# Altium footprint library Connector_Samtec_HLE_SMD.PcbLib: 290 footprints (part 13 of 24)
Each footprint in its own frame and in the unit in brackets; x right, y up, seen from the top. Pads: shape width x height; smd on the part's side, far side on the other; paste and mask are expansions set on the pad; w line width, h text height; cw(c..) or ccw(c..) is an arc to the next point about the centre after c.
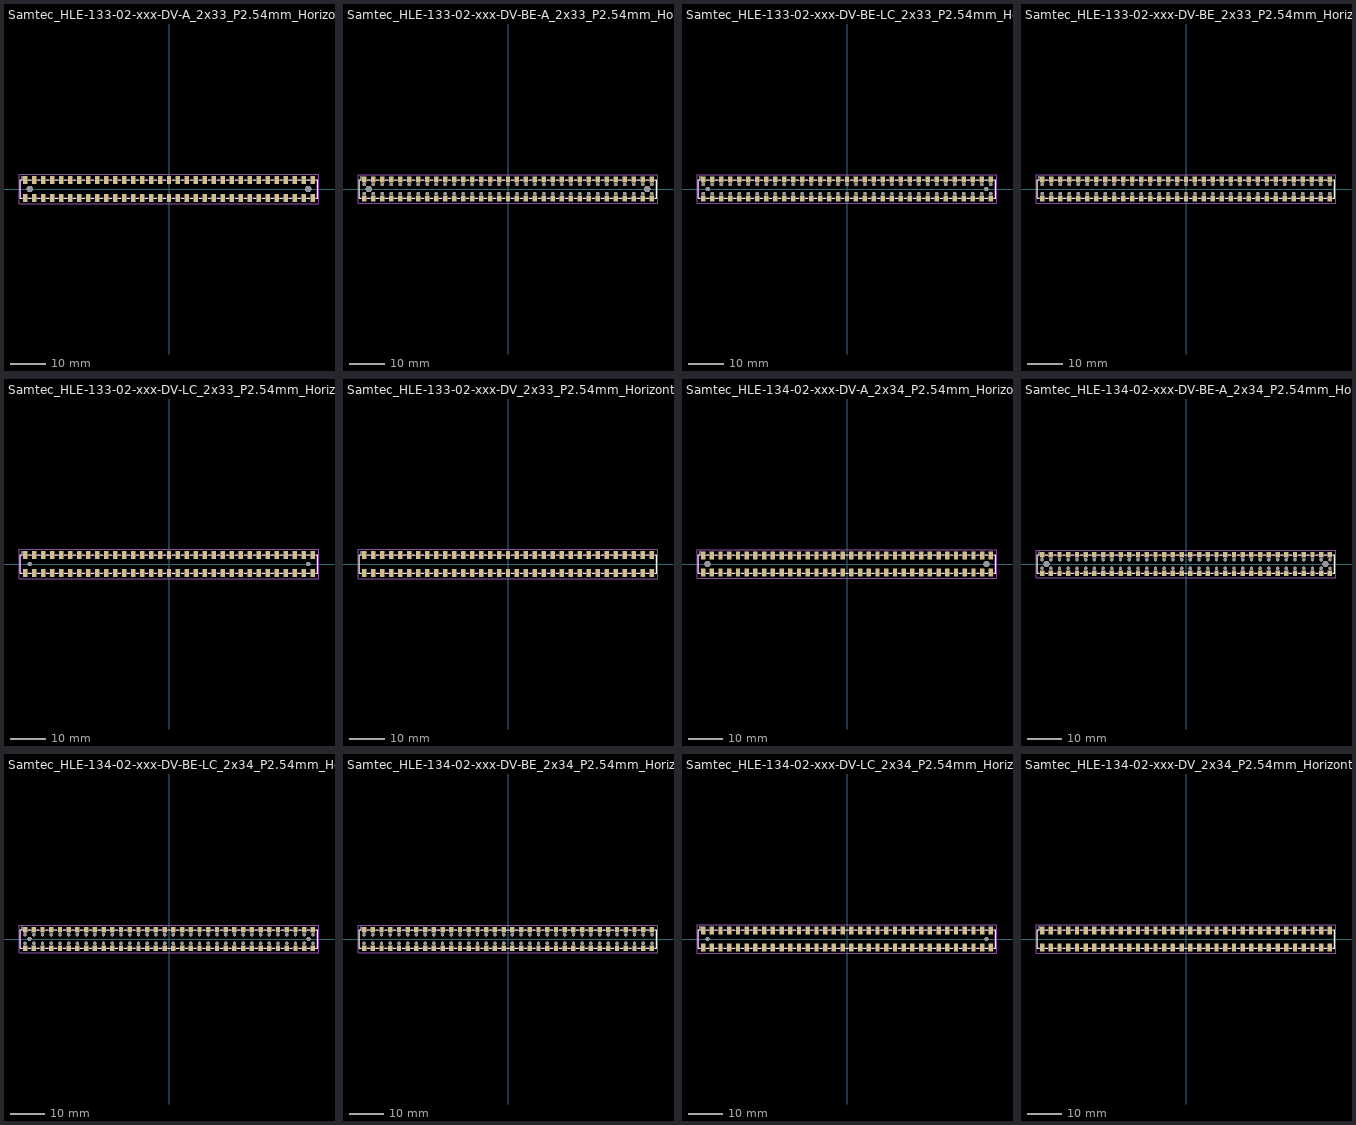
[diagram p12: the footprints below, top view; thin cyan lines are the x and y axes]

## Samtec_HLE-133-02-xxx-DV-A_2x33_P2.54mm_Horizontal [mm]
pads (68):
  rect 1.27x2.29 smd: 1(-40.64,2.525) 2(-40.64,-2.525) 3(-38.1,2.525) 4(-38.1,-2.525) 5(-35.56,2.525) 6(-35.56,-2.525) 7(-33.02,2.525) 8(-33.02,-2.525) 9(-30.48,2.525) 10(-30.48,-2.525) 11(-27.94,2.525) 12(-27.94,-2.525) 13(-25.4,2.525) 14(-25.4,-2.525) 15(-22.86,2.525) 16(-22.86,-2.525) 17(-20.32,2.525) 18(-20.32,-2.525) 19(-17.78,2.525) 20(-17.78,-2.525) 21(-15.24,2.525) 22(-15.24,-2.525) 23(-12.7,2.525) 24(-12.7,-2.525) 25(-10.16,2.525) 26(-10.16,-2.525) 27(-7.62,2.525) 28(-7.62,-2.525) 29(-5.08,2.525) 30(-5.08,-2.525) 31(-2.54,2.525) 32(-2.54,-2.525) 33(0,2.525) 34(0,-2.525) 35(2.54,2.525) 36(2.54,-2.525) 37(5.08,2.525) 38(5.08,-2.525) 39(7.62,2.525) 40(7.62,-2.525) 41(10.16,2.525) 42(10.16,-2.525) 43(12.7,2.525) 44(12.7,-2.525) 45(15.24,2.525) 46(15.24,-2.525) 47(17.78,2.525) 48(17.78,-2.525) 49(20.32,2.525) 50(20.32,-2.525) 51(22.86,2.525) 52(22.86,-2.525) 53(25.4,2.525) 54(25.4,-2.525) 55(27.94,2.525) 56(27.94,-2.525) 57(30.48,2.525) 58(30.48,-2.525) 59(33.02,2.525) 60(33.02,-2.525) 61(35.56,2.525) 62(35.56,-2.525) 63(38.1,2.525) 64(38.1,-2.525) 65(40.64,2.525) 66(40.64,-2.525)
  round 1.78 hole 1.78: Un1(-39.37,0) Un2(39.37,0)
F.SilkS:
  lines w0.254: -41.535,-2.65 -42.02,-2.65 -42.02,2.65 -41.535,2.65 -41.535,3.67 ; -39.745,-2.65 -38.995,-2.65 ; -39.745,2.65 -38.995,2.65 ; -37.205,-2.65 -36.455,-2.65 ; -37.205,2.65 -36.455,2.65 ; -34.665,-2.65 -33.915,-2.65 ; -34.665,2.65 -33.915,2.65 ; -32.125,-2.65 -31.375,-2.65 ; -32.125,2.65 -31.375,2.65 ; -29.585,-2.65 -28.835,-2.65 ; -29.585,2.65 -28.835,2.65 ; -27.045,-2.65 -26.295,-2.65 ; -27.045,2.65 -26.295,2.65 ; -24.505,-2.65 -23.755,-2.65 ; -24.505,2.65 -23.755,2.65 ; -21.965,-2.65 -21.215,-2.65 ; -21.965,2.65 -21.215,2.65 ; -19.425,-2.65 -18.675,-2.65 ; -19.425,2.65 -18.675,2.65 ; -16.885,-2.65 -16.135,-2.65 ; -16.885,2.65 -16.135,2.65 ; -14.345,-2.65 -13.595,-2.65 ; -14.345,2.65 -13.595,2.65 ; -11.805,-2.65 -11.055,-2.65 ; -11.805,2.65 -11.055,2.65 ; -9.265,-2.65 -8.515,-2.65 ; -9.265,2.65 -8.515,2.65 ; -6.725,-2.65 -5.975,-2.65 ; -6.725,2.65 -5.975,2.65 ; -4.185,-2.65 -3.435,-2.65 ; -4.185,2.65 -3.435,2.65 ; -1.645,-2.65 -0.895,-2.65 ; -1.645,2.65 -0.895,2.65 ; 0.895,-2.65 1.645,-2.65 ; 0.895,2.65 1.645,2.65 ; 3.435,-2.65 4.185,-2.65 ; 3.435,2.65 4.185,2.65 ; 5.975,-2.65 6.725,-2.65 ; 5.975,2.65 6.725,2.65 ; 8.515,-2.65 9.265,-2.65 ; 8.515,2.65 9.265,2.65 ; 11.055,-2.65 11.805,-2.65 ; 11.055,2.65 11.805,2.65 ; 13.595,-2.65 14.345,-2.65 ; 13.595,2.65 14.345,2.65 ; 16.135,-2.65 16.885,-2.65 ; 16.135,2.65 16.885,2.65 ; 18.675,-2.65 19.425,-2.65 ; 18.675,2.65 19.425,2.65 ; 21.215,-2.65 21.965,-2.65 ; 21.215,2.65 21.965,2.65 ; 23.755,-2.65 24.505,-2.65 ; 23.755,2.65 24.505,2.65 ; 26.295,-2.65 27.045,-2.65 ; 26.295,2.65 27.045,2.65 ; 28.835,-2.65 29.585,-2.65 ; 28.835,2.65 29.585,2.65 ; 31.375,-2.65 32.125,-2.65 ; 31.375,2.65 32.125,2.65 ; 33.915,-2.65 34.665,-2.65 ; 33.915,2.65 34.665,2.65 ; 36.455,-2.65 37.205,-2.65 ; 36.455,2.65 37.205,2.65 ; 38.995,-2.65 39.745,-2.65 ; 38.995,2.65 39.745,2.65 ; 41.535,-2.65 42.02,-2.65 42.02,2.65 41.535,2.65
Top Assembly:
  lines w0.254: -41.14,2.54 -40.64,1.833 -40.14,2.54 ; -41.91,-2.54 41.91,-2.54 41.91,2.54 -41.91,2.54 -41.91,-2.54
  text "'.Designator'" at -4.047,-2.68 h1
Top Courtyard:
  lines w0.254: -42.41,-4.17 42.41,-4.17 42.41,4.17 -42.41,4.17 -42.41,-4.17
Top Designator:
  text ".Designator" at -7.618,-0.508 h1.52

## Samtec_HLE-133-02-xxx-DV-BE-A_2x33_P2.54mm_Horizontal [mm]
pads (134):
  rect 1.27x1.68 smd: 1(-40.64,2.72) 2(-40.64,-2.72) 3(-38.1,2.72) 4(-38.1,-2.72) 5(-35.56,2.72) 6(-35.56,-2.72) 7(-33.02,2.72) 8(-33.02,-2.72) 9(-30.48,2.72) 10(-30.48,-2.72) 11(-27.94,2.72) 12(-27.94,-2.72) 13(-25.4,2.72) 14(-25.4,-2.72) 15(-22.86,2.72) 16(-22.86,-2.72) 17(-20.32,2.72) 18(-20.32,-2.72) 19(-17.78,2.72) 20(-17.78,-2.72) 21(-15.24,2.72) 22(-15.24,-2.72) 23(-12.7,2.72) 24(-12.7,-2.72) 25(-10.16,2.72) 26(-10.16,-2.72) 27(-7.62,2.72) 28(-7.62,-2.72) 29(-5.08,2.72) 30(-5.08,-2.72) 31(-2.54,2.72) 32(-2.54,-2.72) 33(0,2.72) 34(0,-2.72) 35(2.54,2.72) 36(2.54,-2.72) 37(5.08,2.72) 38(5.08,-2.72) 39(7.62,2.72) 40(7.62,-2.72) 41(10.16,2.72) 42(10.16,-2.72) 43(12.7,2.72) 44(12.7,-2.72) 45(15.24,2.72) 46(15.24,-2.72) 47(17.78,2.72) 48(17.78,-2.72) 49(20.32,2.72) 50(20.32,-2.72) 51(22.86,2.72) 52(22.86,-2.72) 53(25.4,2.72) 54(25.4,-2.72) 55(27.94,2.72) 56(27.94,-2.72) 57(30.48,2.72) 58(30.48,-2.72) 59(33.02,2.72) 60(33.02,-2.72) 61(35.56,2.72) 62(35.56,-2.72) 63(38.1,2.72) 64(38.1,-2.72) 65(40.64,2.72) 66(40.64,-2.72)
  round 0.97 hole 0.97: Un1(-40.64,1.27) Un2(-40.64,-1.27) Un4(-38.1,1.27) Un5(-38.1,-1.27) Un6(-35.56,1.27) Un7(-35.56,-1.27) Un8(-33.02,1.27) Un9(-33.02,-1.27) Un10(-30.48,1.27) Un11(-30.48,-1.27) Un12(-27.94,1.27) Un13(-27.94,-1.27) Un14(-25.4,1.27) Un15(-25.4,-1.27) Un16(-22.86,1.27) Un17(-22.86,-1.27) Un18(-20.32,1.27) Un19(-20.32,-1.27) Un20(-17.78,1.27) Un21(-17.78,-1.27) Un22(-15.24,1.27) Un23(-15.24,-1.27) Un24(-12.7,1.27) Un25(-12.7,-1.27) Un26(-10.16,1.27) Un27(-10.16,-1.27) Un28(-7.62,1.27) Un29(-7.62,-1.27) Un30(-5.08,1.27) Un31(-5.08,-1.27) Un32(-2.54,1.27) Un33(-2.54,-1.27) Un34(0,1.27) Un35(0,-1.27) Un36(2.54,1.27) Un37(2.54,-1.27) Un38(5.08,1.27) Un39(5.08,-1.27) Un40(7.62,1.27) Un41(7.62,-1.27) Un42(10.16,1.27) Un43(10.16,-1.27) Un44(12.7,1.27) Un45(12.7,-1.27) Un46(15.24,1.27) Un47(15.24,-1.27) Un48(17.78,1.27) Un49(17.78,-1.27) Un50(20.32,1.27) Un51(20.32,-1.27) Un52(22.86,1.27) Un53(22.86,-1.27) Un54(25.4,1.27) Un55(25.4,-1.27) Un56(27.94,1.27) Un57(27.94,-1.27) Un58(30.48,1.27) Un59(30.48,-1.27) Un60(33.02,1.27) Un61(33.02,-1.27) Un62(35.56,1.27) Un63(35.56,-1.27) Un64(38.1,1.27) Un65(38.1,-1.27) Un67(40.64,1.27) Un68(40.64,-1.27)
  round 1.78 hole 1.78: Un3(-39.37,0) Un66(39.37,0)
F.SilkS:
  lines w0.254: -41.535,-2.65 -42.02,-2.65 -42.02,2.65 -41.535,2.65 -41.535,3.56 ; -39.745,-2.65 -38.995,-2.65 ; -39.745,2.65 -38.995,2.65 ; -37.205,-2.65 -36.455,-2.65 ; -37.205,2.65 -36.455,2.65 ; -34.665,-2.65 -33.915,-2.65 ; -34.665,2.65 -33.915,2.65 ; -32.125,-2.65 -31.375,-2.65 ; -32.125,2.65 -31.375,2.65 ; -29.585,-2.65 -28.835,-2.65 ; -29.585,2.65 -28.835,2.65 ; -27.045,-2.65 -26.295,-2.65 ; -27.045,2.65 -26.295,2.65 ; -24.505,-2.65 -23.755,-2.65 ; -24.505,2.65 -23.755,2.65 ; -21.965,-2.65 -21.215,-2.65 ; -21.965,2.65 -21.215,2.65 ; -19.425,-2.65 -18.675,-2.65 ; -19.425,2.65 -18.675,2.65 ; -16.885,-2.65 -16.135,-2.65 ; -16.885,2.65 -16.135,2.65 ; -14.345,-2.65 -13.595,-2.65 ; -14.345,2.65 -13.595,2.65 ; -11.805,-2.65 -11.055,-2.65 ; -11.805,2.65 -11.055,2.65 ; -9.265,-2.65 -8.515,-2.65 ; -9.265,2.65 -8.515,2.65 ; -6.725,-2.65 -5.975,-2.65 ; -6.725,2.65 -5.975,2.65 ; -4.185,-2.65 -3.435,-2.65 ; -4.185,2.65 -3.435,2.65 ; -1.645,-2.65 -0.895,-2.65 ; -1.645,2.65 -0.895,2.65 ; 0.895,-2.65 1.645,-2.65 ; 0.895,2.65 1.645,2.65 ; 3.435,-2.65 4.185,-2.65 ; 3.435,2.65 4.185,2.65 ; 5.975,-2.65 6.725,-2.65 ; 5.975,2.65 6.725,2.65 ; 8.515,-2.65 9.265,-2.65 ; 8.515,2.65 9.265,2.65 ; 11.055,-2.65 11.805,-2.65 ; 11.055,2.65 11.805,2.65 ; 13.595,-2.65 14.345,-2.65 ; 13.595,2.65 14.345,2.65 ; 16.135,-2.65 16.885,-2.65 ; 16.135,2.65 16.885,2.65 ; 18.675,-2.65 19.425,-2.65 ; 18.675,2.65 19.425,2.65 ; 21.215,-2.65 21.965,-2.65 ; 21.215,2.65 21.965,2.65 ; 23.755,-2.65 24.505,-2.65 ; 23.755,2.65 24.505,2.65 ; 26.295,-2.65 27.045,-2.65 ; 26.295,2.65 27.045,2.65 ; 28.835,-2.65 29.585,-2.65 ; 28.835,2.65 29.585,2.65 ; 31.375,-2.65 32.125,-2.65 ; 31.375,2.65 32.125,2.65 ; 33.915,-2.65 34.665,-2.65 ; 33.915,2.65 34.665,2.65 ; 36.455,-2.65 37.205,-2.65 ; 36.455,2.65 37.205,2.65 ; 38.995,-2.65 39.745,-2.65 ; 38.995,2.65 39.745,2.65 ; 41.535,-2.65 42.02,-2.65 42.02,2.65 41.535,2.65
Top Assembly:
  lines w0.254: -41.14,2.54 -40.64,1.833 -40.14,2.54 ; -41.91,-2.54 41.91,-2.54 41.91,2.54 -41.91,2.54 -41.91,-2.54
  text "'.Designator'" at -4.047,-2.68 h1
Top Courtyard:
  lines w0.254: -42.41,-4.07 42.41,-4.07 42.41,4.07 -42.41,4.07 -42.41,-4.07
Top Designator:
  text ".Designator" at -7.618,-0.508 h1.52

## Samtec_HLE-133-02-xxx-DV-BE-LC_2x33_P2.54mm_Horizontal [mm]
pads (134):
  rect 1.27x1.68 smd: 1(-40.64,2.72) 2(-40.64,-2.72) 3(-38.1,2.72) 4(-38.1,-2.72) 5(-35.56,2.72) 6(-35.56,-2.72) 7(-33.02,2.72) 8(-33.02,-2.72) 9(-30.48,2.72) 10(-30.48,-2.72) 11(-27.94,2.72) 12(-27.94,-2.72) 13(-25.4,2.72) 14(-25.4,-2.72) 15(-22.86,2.72) 16(-22.86,-2.72) 17(-20.32,2.72) 18(-20.32,-2.72) 19(-17.78,2.72) 20(-17.78,-2.72) 21(-15.24,2.72) 22(-15.24,-2.72) 23(-12.7,2.72) 24(-12.7,-2.72) 25(-10.16,2.72) 26(-10.16,-2.72) 27(-7.62,2.72) 28(-7.62,-2.72) 29(-5.08,2.72) 30(-5.08,-2.72) 31(-2.54,2.72) 32(-2.54,-2.72) 33(0,2.72) 34(0,-2.72) 35(2.54,2.72) 36(2.54,-2.72) 37(5.08,2.72) 38(5.08,-2.72) 39(7.62,2.72) 40(7.62,-2.72) 41(10.16,2.72) 42(10.16,-2.72) 43(12.7,2.72) 44(12.7,-2.72) 45(15.24,2.72) 46(15.24,-2.72) 47(17.78,2.72) 48(17.78,-2.72) 49(20.32,2.72) 50(20.32,-2.72) 51(22.86,2.72) 52(22.86,-2.72) 53(25.4,2.72) 54(25.4,-2.72) 55(27.94,2.72) 56(27.94,-2.72) 57(30.48,2.72) 58(30.48,-2.72) 59(33.02,2.72) 60(33.02,-2.72) 61(35.56,2.72) 62(35.56,-2.72) 63(38.1,2.72) 64(38.1,-2.72) 65(40.64,2.72) 66(40.64,-2.72)
  round 0.97 hole 0.97: Un1(-40.64,1.27) Un2(-40.64,-1.27) Un4(-38.1,1.27) Un5(-38.1,-1.27) Un6(-35.56,1.27) Un7(-35.56,-1.27) Un8(-33.02,1.27) Un9(-33.02,-1.27) Un10(-30.48,1.27) Un11(-30.48,-1.27) Un12(-27.94,1.27) Un13(-27.94,-1.27) Un14(-25.4,1.27) Un15(-25.4,-1.27) Un16(-22.86,1.27) Un17(-22.86,-1.27) Un18(-20.32,1.27) Un19(-20.32,-1.27) Un20(-17.78,1.27) Un21(-17.78,-1.27) Un22(-15.24,1.27) Un23(-15.24,-1.27) Un24(-12.7,1.27) Un25(-12.7,-1.27) Un26(-10.16,1.27) Un27(-10.16,-1.27) Un28(-7.62,1.27) Un29(-7.62,-1.27) Un30(-5.08,1.27) Un31(-5.08,-1.27) Un32(-2.54,1.27) Un33(-2.54,-1.27) Un34(0,1.27) Un35(0,-1.27) Un36(2.54,1.27) Un37(2.54,-1.27) Un38(5.08,1.27) Un39(5.08,-1.27) Un40(7.62,1.27) Un41(7.62,-1.27) Un42(10.16,1.27) Un43(10.16,-1.27) Un44(12.7,1.27) Un45(12.7,-1.27) Un46(15.24,1.27) Un47(15.24,-1.27) Un48(17.78,1.27) Un49(17.78,-1.27) Un50(20.32,1.27) Un51(20.32,-1.27) Un52(22.86,1.27) Un53(22.86,-1.27) Un54(25.4,1.27) Un55(25.4,-1.27) Un56(27.94,1.27) Un57(27.94,-1.27) Un58(30.48,1.27) Un59(30.48,-1.27) Un60(33.02,1.27) Un61(33.02,-1.27) Un62(35.56,1.27) Un63(35.56,-1.27) Un64(38.1,1.27) Un65(38.1,-1.27) Un67(40.64,1.27) Un68(40.64,-1.27)
  round 1.19 hole 1.19: Un3(-39.37,0) Un66(39.37,0)
F.SilkS:
  lines w0.254: -41.535,-2.65 -42.02,-2.65 -42.02,2.65 -41.535,2.65 -41.535,3.56 ; -39.745,-2.65 -38.995,-2.65 ; -39.745,2.65 -38.995,2.65 ; -37.205,-2.65 -36.455,-2.65 ; -37.205,2.65 -36.455,2.65 ; -34.665,-2.65 -33.915,-2.65 ; -34.665,2.65 -33.915,2.65 ; -32.125,-2.65 -31.375,-2.65 ; -32.125,2.65 -31.375,2.65 ; -29.585,-2.65 -28.835,-2.65 ; -29.585,2.65 -28.835,2.65 ; -27.045,-2.65 -26.295,-2.65 ; -27.045,2.65 -26.295,2.65 ; -24.505,-2.65 -23.755,-2.65 ; -24.505,2.65 -23.755,2.65 ; -21.965,-2.65 -21.215,-2.65 ; -21.965,2.65 -21.215,2.65 ; -19.425,-2.65 -18.675,-2.65 ; -19.425,2.65 -18.675,2.65 ; -16.885,-2.65 -16.135,-2.65 ; -16.885,2.65 -16.135,2.65 ; -14.345,-2.65 -13.595,-2.65 ; -14.345,2.65 -13.595,2.65 ; -11.805,-2.65 -11.055,-2.65 ; -11.805,2.65 -11.055,2.65 ; -9.265,-2.65 -8.515,-2.65 ; -9.265,2.65 -8.515,2.65 ; -6.725,-2.65 -5.975,-2.65 ; -6.725,2.65 -5.975,2.65 ; -4.185,-2.65 -3.435,-2.65 ; -4.185,2.65 -3.435,2.65 ; -1.645,-2.65 -0.895,-2.65 ; -1.645,2.65 -0.895,2.65 ; 0.895,-2.65 1.645,-2.65 ; 0.895,2.65 1.645,2.65 ; 3.435,-2.65 4.185,-2.65 ; 3.435,2.65 4.185,2.65 ; 5.975,-2.65 6.725,-2.65 ; 5.975,2.65 6.725,2.65 ; 8.515,-2.65 9.265,-2.65 ; 8.515,2.65 9.265,2.65 ; 11.055,-2.65 11.805,-2.65 ; 11.055,2.65 11.805,2.65 ; 13.595,-2.65 14.345,-2.65 ; 13.595,2.65 14.345,2.65 ; 16.135,-2.65 16.885,-2.65 ; 16.135,2.65 16.885,2.65 ; 18.675,-2.65 19.425,-2.65 ; 18.675,2.65 19.425,2.65 ; 21.215,-2.65 21.965,-2.65 ; 21.215,2.65 21.965,2.65 ; 23.755,-2.65 24.505,-2.65 ; 23.755,2.65 24.505,2.65 ; 26.295,-2.65 27.045,-2.65 ; 26.295,2.65 27.045,2.65 ; 28.835,-2.65 29.585,-2.65 ; 28.835,2.65 29.585,2.65 ; 31.375,-2.65 32.125,-2.65 ; 31.375,2.65 32.125,2.65 ; 33.915,-2.65 34.665,-2.65 ; 33.915,2.65 34.665,2.65 ; 36.455,-2.65 37.205,-2.65 ; 36.455,2.65 37.205,2.65 ; 38.995,-2.65 39.745,-2.65 ; 38.995,2.65 39.745,2.65 ; 41.535,-2.65 42.02,-2.65 42.02,2.65 41.535,2.65
Top Assembly:
  lines w0.254: -41.14,2.54 -40.64,1.833 -40.14,2.54 ; -41.91,-2.54 41.91,-2.54 41.91,2.54 -41.91,2.54 -41.91,-2.54
  text "'.Designator'" at -4.047,-2.68 h1
Top Courtyard:
  lines w0.254: -42.41,-4.07 42.41,-4.07 42.41,4.07 -42.41,4.07 -42.41,-4.07
Top Designator:
  text ".Designator" at -7.618,-0.508 h1.52

## Samtec_HLE-133-02-xxx-DV-BE_2x33_P2.54mm_Horizontal [mm]
pads (132):
  rect 1.27x1.68 smd: 1(-40.64,2.72) 2(-40.64,-2.72) 3(-38.1,2.72) 4(-38.1,-2.72) 5(-35.56,2.72) 6(-35.56,-2.72) 7(-33.02,2.72) 8(-33.02,-2.72) 9(-30.48,2.72) 10(-30.48,-2.72) 11(-27.94,2.72) 12(-27.94,-2.72) 13(-25.4,2.72) 14(-25.4,-2.72) 15(-22.86,2.72) 16(-22.86,-2.72) 17(-20.32,2.72) 18(-20.32,-2.72) 19(-17.78,2.72) 20(-17.78,-2.72) 21(-15.24,2.72) 22(-15.24,-2.72) 23(-12.7,2.72) 24(-12.7,-2.72) 25(-10.16,2.72) 26(-10.16,-2.72) 27(-7.62,2.72) 28(-7.62,-2.72) 29(-5.08,2.72) 30(-5.08,-2.72) 31(-2.54,2.72) 32(-2.54,-2.72) 33(0,2.72) 34(0,-2.72) 35(2.54,2.72) 36(2.54,-2.72) 37(5.08,2.72) 38(5.08,-2.72) 39(7.62,2.72) 40(7.62,-2.72) 41(10.16,2.72) 42(10.16,-2.72) 43(12.7,2.72) 44(12.7,-2.72) 45(15.24,2.72) 46(15.24,-2.72) 47(17.78,2.72) 48(17.78,-2.72) 49(20.32,2.72) 50(20.32,-2.72) 51(22.86,2.72) 52(22.86,-2.72) 53(25.4,2.72) 54(25.4,-2.72) 55(27.94,2.72) 56(27.94,-2.72) 57(30.48,2.72) 58(30.48,-2.72) 59(33.02,2.72) 60(33.02,-2.72) 61(35.56,2.72) 62(35.56,-2.72) 63(38.1,2.72) 64(38.1,-2.72) 65(40.64,2.72) 66(40.64,-2.72)
  round 0.97 hole 0.97: Un1(-40.64,1.27) Un2(-40.64,-1.27) Un3(-38.1,1.27) Un4(-38.1,-1.27) Un5(-35.56,1.27) Un6(-35.56,-1.27) Un7(-33.02,1.27) Un8(-33.02,-1.27) Un9(-30.48,1.27) Un10(-30.48,-1.27) Un11(-27.94,1.27) Un12(-27.94,-1.27) Un13(-25.4,1.27) Un14(-25.4,-1.27) Un15(-22.86,1.27) Un16(-22.86,-1.27) Un17(-20.32,1.27) Un18(-20.32,-1.27) Un19(-17.78,1.27) Un20(-17.78,-1.27) Un21(-15.24,1.27) Un22(-15.24,-1.27) Un23(-12.7,1.27) Un24(-12.7,-1.27) Un25(-10.16,1.27) Un26(-10.16,-1.27) Un27(-7.62,1.27) Un28(-7.62,-1.27) Un29(-5.08,1.27) Un30(-5.08,-1.27) Un31(-2.54,1.27) Un32(-2.54,-1.27) Un33(0,1.27) Un34(0,-1.27) Un35(2.54,1.27) Un36(2.54,-1.27) Un37(5.08,1.27) Un38(5.08,-1.27) Un39(7.62,1.27) Un40(7.62,-1.27) Un41(10.16,1.27) Un42(10.16,-1.27) Un43(12.7,1.27) Un44(12.7,-1.27) Un45(15.24,1.27) Un46(15.24,-1.27) Un47(17.78,1.27) Un48(17.78,-1.27) Un49(20.32,1.27) Un50(20.32,-1.27) Un51(22.86,1.27) Un52(22.86,-1.27) Un53(25.4,1.27) Un54(25.4,-1.27) Un55(27.94,1.27) Un56(27.94,-1.27) Un57(30.48,1.27) Un58(30.48,-1.27) Un59(33.02,1.27) Un60(33.02,-1.27) Un61(35.56,1.27) Un62(35.56,-1.27) Un63(38.1,1.27) Un64(38.1,-1.27) Un65(40.64,1.27) Un66(40.64,-1.27)
F.SilkS:
  lines w0.254: -41.535,-2.65 -42.02,-2.65 -42.02,2.65 -41.535,2.65 -41.535,3.56 ; -39.745,-2.65 -38.995,-2.65 ; -39.745,2.65 -38.995,2.65 ; -37.205,-2.65 -36.455,-2.65 ; -37.205,2.65 -36.455,2.65 ; -34.665,-2.65 -33.915,-2.65 ; -34.665,2.65 -33.915,2.65 ; -32.125,-2.65 -31.375,-2.65 ; -32.125,2.65 -31.375,2.65 ; -29.585,-2.65 -28.835,-2.65 ; -29.585,2.65 -28.835,2.65 ; -27.045,-2.65 -26.295,-2.65 ; -27.045,2.65 -26.295,2.65 ; -24.505,-2.65 -23.755,-2.65 ; -24.505,2.65 -23.755,2.65 ; -21.965,-2.65 -21.215,-2.65 ; -21.965,2.65 -21.215,2.65 ; -19.425,-2.65 -18.675,-2.65 ; -19.425,2.65 -18.675,2.65 ; -16.885,-2.65 -16.135,-2.65 ; -16.885,2.65 -16.135,2.65 ; -14.345,-2.65 -13.595,-2.65 ; -14.345,2.65 -13.595,2.65 ; -11.805,-2.65 -11.055,-2.65 ; -11.805,2.65 -11.055,2.65 ; -9.265,-2.65 -8.515,-2.65 ; -9.265,2.65 -8.515,2.65 ; -6.725,-2.65 -5.975,-2.65 ; -6.725,2.65 -5.975,2.65 ; -4.185,-2.65 -3.435,-2.65 ; -4.185,2.65 -3.435,2.65 ; -1.645,-2.65 -0.895,-2.65 ; -1.645,2.65 -0.895,2.65 ; 0.895,-2.65 1.645,-2.65 ; 0.895,2.65 1.645,2.65 ; 3.435,-2.65 4.185,-2.65 ; 3.435,2.65 4.185,2.65 ; 5.975,-2.65 6.725,-2.65 ; 5.975,2.65 6.725,2.65 ; 8.515,-2.65 9.265,-2.65 ; 8.515,2.65 9.265,2.65 ; 11.055,-2.65 11.805,-2.65 ; 11.055,2.65 11.805,2.65 ; 13.595,-2.65 14.345,-2.65 ; 13.595,2.65 14.345,2.65 ; 16.135,-2.65 16.885,-2.65 ; 16.135,2.65 16.885,2.65 ; 18.675,-2.65 19.425,-2.65 ; 18.675,2.65 19.425,2.65 ; 21.215,-2.65 21.965,-2.65 ; 21.215,2.65 21.965,2.65 ; 23.755,-2.65 24.505,-2.65 ; 23.755,2.65 24.505,2.65 ; 26.295,-2.65 27.045,-2.65 ; 26.295,2.65 27.045,2.65 ; 28.835,-2.65 29.585,-2.65 ; 28.835,2.65 29.585,2.65 ; 31.375,-2.65 32.125,-2.65 ; 31.375,2.65 32.125,2.65 ; 33.915,-2.65 34.665,-2.65 ; 33.915,2.65 34.665,2.65 ; 36.455,-2.65 37.205,-2.65 ; 36.455,2.65 37.205,2.65 ; 38.995,-2.65 39.745,-2.65 ; 38.995,2.65 39.745,2.65 ; 41.535,-2.65 42.02,-2.65 42.02,2.65 41.535,2.65
Top Assembly:
  lines w0.254: -41.14,2.54 -40.64,1.833 -40.14,2.54 ; -41.91,-2.54 41.91,-2.54 41.91,2.54 -41.91,2.54 -41.91,-2.54
  text "'.Designator'" at -4.047,-2.68 h1
Top Courtyard:
  lines w0.254: -42.41,-4.07 42.41,-4.07 42.41,4.07 -42.41,4.07 -42.41,-4.07
Top Designator:
  text ".Designator" at -7.618,-0.508 h1.52

## Samtec_HLE-133-02-xxx-DV-LC_2x33_P2.54mm_Horizontal [mm]
pads (68):
  rect 1.27x2.29 smd: 1(-40.64,2.525) 2(-40.64,-2.525) 3(-38.1,2.525) 4(-38.1,-2.525) 5(-35.56,2.525) 6(-35.56,-2.525) 7(-33.02,2.525) 8(-33.02,-2.525) 9(-30.48,2.525) 10(-30.48,-2.525) 11(-27.94,2.525) 12(-27.94,-2.525) 13(-25.4,2.525) 14(-25.4,-2.525) 15(-22.86,2.525) 16(-22.86,-2.525) 17(-20.32,2.525) 18(-20.32,-2.525) 19(-17.78,2.525) 20(-17.78,-2.525) 21(-15.24,2.525) 22(-15.24,-2.525) 23(-12.7,2.525) 24(-12.7,-2.525) 25(-10.16,2.525) 26(-10.16,-2.525) 27(-7.62,2.525) 28(-7.62,-2.525) 29(-5.08,2.525) 30(-5.08,-2.525) 31(-2.54,2.525) 32(-2.54,-2.525) 33(0,2.525) 34(0,-2.525) 35(2.54,2.525) 36(2.54,-2.525) 37(5.08,2.525) 38(5.08,-2.525) 39(7.62,2.525) 40(7.62,-2.525) 41(10.16,2.525) 42(10.16,-2.525) 43(12.7,2.525) 44(12.7,-2.525) 45(15.24,2.525) 46(15.24,-2.525) 47(17.78,2.525) 48(17.78,-2.525) 49(20.32,2.525) 50(20.32,-2.525) 51(22.86,2.525) 52(22.86,-2.525) 53(25.4,2.525) 54(25.4,-2.525) 55(27.94,2.525) 56(27.94,-2.525) 57(30.48,2.525) 58(30.48,-2.525) 59(33.02,2.525) 60(33.02,-2.525) 61(35.56,2.525) 62(35.56,-2.525) 63(38.1,2.525) 64(38.1,-2.525) 65(40.64,2.525) 66(40.64,-2.525)
  round 1.19 hole 1.19: Un1(-39.37,0) Un2(39.37,0)
F.SilkS:
  lines w0.254: -41.535,-2.65 -42.02,-2.65 -42.02,2.65 -41.535,2.65 -41.535,3.67 ; -39.745,-2.65 -38.995,-2.65 ; -39.745,2.65 -38.995,2.65 ; -37.205,-2.65 -36.455,-2.65 ; -37.205,2.65 -36.455,2.65 ; -34.665,-2.65 -33.915,-2.65 ; -34.665,2.65 -33.915,2.65 ; -32.125,-2.65 -31.375,-2.65 ; -32.125,2.65 -31.375,2.65 ; -29.585,-2.65 -28.835,-2.65 ; -29.585,2.65 -28.835,2.65 ; -27.045,-2.65 -26.295,-2.65 ; -27.045,2.65 -26.295,2.65 ; -24.505,-2.65 -23.755,-2.65 ; -24.505,2.65 -23.755,2.65 ; -21.965,-2.65 -21.215,-2.65 ; -21.965,2.65 -21.215,2.65 ; -19.425,-2.65 -18.675,-2.65 ; -19.425,2.65 -18.675,2.65 ; -16.885,-2.65 -16.135,-2.65 ; -16.885,2.65 -16.135,2.65 ; -14.345,-2.65 -13.595,-2.65 ; -14.345,2.65 -13.595,2.65 ; -11.805,-2.65 -11.055,-2.65 ; -11.805,2.65 -11.055,2.65 ; -9.265,-2.65 -8.515,-2.65 ; -9.265,2.65 -8.515,2.65 ; -6.725,-2.65 -5.975,-2.65 ; -6.725,2.65 -5.975,2.65 ; -4.185,-2.65 -3.435,-2.65 ; -4.185,2.65 -3.435,2.65 ; -1.645,-2.65 -0.895,-2.65 ; -1.645,2.65 -0.895,2.65 ; 0.895,-2.65 1.645,-2.65 ; 0.895,2.65 1.645,2.65 ; 3.435,-2.65 4.185,-2.65 ; 3.435,2.65 4.185,2.65 ; 5.975,-2.65 6.725,-2.65 ; 5.975,2.65 6.725,2.65 ; 8.515,-2.65 9.265,-2.65 ; 8.515,2.65 9.265,2.65 ; 11.055,-2.65 11.805,-2.65 ; 11.055,2.65 11.805,2.65 ; 13.595,-2.65 14.345,-2.65 ; 13.595,2.65 14.345,2.65 ; 16.135,-2.65 16.885,-2.65 ; 16.135,2.65 16.885,2.65 ; 18.675,-2.65 19.425,-2.65 ; 18.675,2.65 19.425,2.65 ; 21.215,-2.65 21.965,-2.65 ; 21.215,2.65 21.965,2.65 ; 23.755,-2.65 24.505,-2.65 ; 23.755,2.65 24.505,2.65 ; 26.295,-2.65 27.045,-2.65 ; 26.295,2.65 27.045,2.65 ; 28.835,-2.65 29.585,-2.65 ; 28.835,2.65 29.585,2.65 ; 31.375,-2.65 32.125,-2.65 ; 31.375,2.65 32.125,2.65 ; 33.915,-2.65 34.665,-2.65 ; 33.915,2.65 34.665,2.65 ; 36.455,-2.65 37.205,-2.65 ; 36.455,2.65 37.205,2.65 ; 38.995,-2.65 39.745,-2.65 ; 38.995,2.65 39.745,2.65 ; 41.535,-2.65 42.02,-2.65 42.02,2.65 41.535,2.65
Top Assembly:
  lines w0.254: -41.14,2.54 -40.64,1.833 -40.14,2.54 ; -41.91,-2.54 41.91,-2.54 41.91,2.54 -41.91,2.54 -41.91,-2.54
  text "'.Designator'" at -4.047,-2.68 h1
Top Courtyard:
  lines w0.254: -42.41,-4.17 42.41,-4.17 42.41,4.17 -42.41,4.17 -42.41,-4.17
Top Designator:
  text ".Designator" at -7.618,-0.508 h1.52

## Samtec_HLE-133-02-xxx-DV_2x33_P2.54mm_Horizontal [mm]
pads (66):
  rect 1.27x2.29 smd: 1(-40.64,2.525) 2(-40.64,-2.525) 3(-38.1,2.525) 4(-38.1,-2.525) 5(-35.56,2.525) 6(-35.56,-2.525) 7(-33.02,2.525) 8(-33.02,-2.525) 9(-30.48,2.525) 10(-30.48,-2.525) 11(-27.94,2.525) 12(-27.94,-2.525) 13(-25.4,2.525) 14(-25.4,-2.525) 15(-22.86,2.525) 16(-22.86,-2.525) 17(-20.32,2.525) 18(-20.32,-2.525) 19(-17.78,2.525) 20(-17.78,-2.525) 21(-15.24,2.525) 22(-15.24,-2.525) 23(-12.7,2.525) 24(-12.7,-2.525) 25(-10.16,2.525) 26(-10.16,-2.525) 27(-7.62,2.525) 28(-7.62,-2.525) 29(-5.08,2.525) 30(-5.08,-2.525) 31(-2.54,2.525) 32(-2.54,-2.525) 33(0,2.525) 34(0,-2.525) 35(2.54,2.525) 36(2.54,-2.525) 37(5.08,2.525) 38(5.08,-2.525) 39(7.62,2.525) 40(7.62,-2.525) 41(10.16,2.525) 42(10.16,-2.525) 43(12.7,2.525) 44(12.7,-2.525) 45(15.24,2.525) 46(15.24,-2.525) 47(17.78,2.525) 48(17.78,-2.525) 49(20.32,2.525) 50(20.32,-2.525) 51(22.86,2.525) 52(22.86,-2.525) 53(25.4,2.525) 54(25.4,-2.525) 55(27.94,2.525) 56(27.94,-2.525) 57(30.48,2.525) 58(30.48,-2.525) 59(33.02,2.525) 60(33.02,-2.525) 61(35.56,2.525) 62(35.56,-2.525) 63(38.1,2.525) 64(38.1,-2.525) 65(40.64,2.525) 66(40.64,-2.525)
F.SilkS:
  lines w0.254: -41.535,-2.65 -42.02,-2.65 -42.02,2.65 -41.535,2.65 -41.535,3.67 ; -39.745,-2.65 -38.995,-2.65 ; -39.745,2.65 -38.995,2.65 ; -37.205,-2.65 -36.455,-2.65 ; -37.205,2.65 -36.455,2.65 ; -34.665,-2.65 -33.915,-2.65 ; -34.665,2.65 -33.915,2.65 ; -32.125,-2.65 -31.375,-2.65 ; -32.125,2.65 -31.375,2.65 ; -29.585,-2.65 -28.835,-2.65 ; -29.585,2.65 -28.835,2.65 ; -27.045,-2.65 -26.295,-2.65 ; -27.045,2.65 -26.295,2.65 ; -24.505,-2.65 -23.755,-2.65 ; -24.505,2.65 -23.755,2.65 ; -21.965,-2.65 -21.215,-2.65 ; -21.965,2.65 -21.215,2.65 ; -19.425,-2.65 -18.675,-2.65 ; -19.425,2.65 -18.675,2.65 ; -16.885,-2.65 -16.135,-2.65 ; -16.885,2.65 -16.135,2.65 ; -14.345,-2.65 -13.595,-2.65 ; -14.345,2.65 -13.595,2.65 ; -11.805,-2.65 -11.055,-2.65 ; -11.805,2.65 -11.055,2.65 ; -9.265,-2.65 -8.515,-2.65 ; -9.265,2.65 -8.515,2.65 ; -6.725,-2.65 -5.975,-2.65 ; -6.725,2.65 -5.975,2.65 ; -4.185,-2.65 -3.435,-2.65 ; -4.185,2.65 -3.435,2.65 ; -1.645,-2.65 -0.895,-2.65 ; -1.645,2.65 -0.895,2.65 ; 0.895,-2.65 1.645,-2.65 ; 0.895,2.65 1.645,2.65 ; 3.435,-2.65 4.185,-2.65 ; 3.435,2.65 4.185,2.65 ; 5.975,-2.65 6.725,-2.65 ; 5.975,2.65 6.725,2.65 ; 8.515,-2.65 9.265,-2.65 ; 8.515,2.65 9.265,2.65 ; 11.055,-2.65 11.805,-2.65 ; 11.055,2.65 11.805,2.65 ; 13.595,-2.65 14.345,-2.65 ; 13.595,2.65 14.345,2.65 ; 16.135,-2.65 16.885,-2.65 ; 16.135,2.65 16.885,2.65 ; 18.675,-2.65 19.425,-2.65 ; 18.675,2.65 19.425,2.65 ; 21.215,-2.65 21.965,-2.65 ; 21.215,2.65 21.965,2.65 ; 23.755,-2.65 24.505,-2.65 ; 23.755,2.65 24.505,2.65 ; 26.295,-2.65 27.045,-2.65 ; 26.295,2.65 27.045,2.65 ; 28.835,-2.65 29.585,-2.65 ; 28.835,2.65 29.585,2.65 ; 31.375,-2.65 32.125,-2.65 ; 31.375,2.65 32.125,2.65 ; 33.915,-2.65 34.665,-2.65 ; 33.915,2.65 34.665,2.65 ; 36.455,-2.65 37.205,-2.65 ; 36.455,2.65 37.205,2.65 ; 38.995,-2.65 39.745,-2.65 ; 38.995,2.65 39.745,2.65 ; 41.535,-2.65 42.02,-2.65 42.02,2.65 41.535,2.65
Top Assembly:
  lines w0.254: -41.14,2.54 -40.64,1.833 -40.14,2.54 ; -41.91,-2.54 41.91,-2.54 41.91,2.54 -41.91,2.54 -41.91,-2.54
  text "'.Designator'" at -4.047,-2.68 h1
Top Courtyard:
  lines w0.254: -42.41,-4.17 42.41,-4.17 42.41,4.17 -42.41,4.17 -42.41,-4.17
Top Designator:
  text ".Designator" at -7.618,-0.508 h1.52

## Samtec_HLE-134-02-xxx-DV-A_2x34_P2.54mm_Horizontal [mm]
pads (70):
  rect 1.27x2.29 smd: 1(-41.91,2.525) 2(-41.91,-2.525) 3(-39.37,2.525) 4(-39.37,-2.525) 5(-36.83,2.525) 6(-36.83,-2.525) 7(-34.29,2.525) 8(-34.29,-2.525) 9(-31.75,2.525) 10(-31.75,-2.525) 11(-29.21,2.525) 12(-29.21,-2.525) 13(-26.67,2.525) 14(-26.67,-2.525) 15(-24.13,2.525) 16(-24.13,-2.525) 17(-21.59,2.525) 18(-21.59,-2.525) 19(-19.05,2.525) 20(-19.05,-2.525) 21(-16.51,2.525) 22(-16.51,-2.525) 23(-13.97,2.525) 24(-13.97,-2.525) 25(-11.43,2.525) 26(-11.43,-2.525) 27(-8.89,2.525) 28(-8.89,-2.525) 29(-6.35,2.525) 30(-6.35,-2.525) 31(-3.81,2.525) 32(-3.81,-2.525) 33(-1.27,2.525) 34(-1.27,-2.525) 35(1.27,2.525) 36(1.27,-2.525) 37(3.81,2.525) 38(3.81,-2.525) 39(6.35,2.525) 40(6.35,-2.525) 41(8.89,2.525) 42(8.89,-2.525) 43(11.43,2.525) 44(11.43,-2.525) 45(13.97,2.525) 46(13.97,-2.525) 47(16.51,2.525) 48(16.51,-2.525) 49(19.05,2.525) 50(19.05,-2.525) 51(21.59,2.525) 52(21.59,-2.525) 53(24.13,2.525) 54(24.13,-2.525) 55(26.67,2.525) 56(26.67,-2.525) 57(29.21,2.525) 58(29.21,-2.525) 59(31.75,2.525) 60(31.75,-2.525) 61(34.29,2.525) 62(34.29,-2.525) 63(36.83,2.525) 64(36.83,-2.525) 65(39.37,2.525) 66(39.37,-2.525) 67(41.91,2.525) 68(41.91,-2.525)
  round 1.78 hole 1.78: Un1(-40.64,0) Un2(40.64,0)
F.SilkS:
  lines w0.254: -42.805,-2.65 -43.29,-2.65 -43.29,2.65 -42.805,2.65 -42.805,3.67 ; -41.015,-2.65 -40.265,-2.65 ; -41.015,2.65 -40.265,2.65 ; -38.475,-2.65 -37.725,-2.65 ; -38.475,2.65 -37.725,2.65 ; -35.935,-2.65 -35.185,-2.65 ; -35.935,2.65 -35.185,2.65 ; -33.395,-2.65 -32.645,-2.65 ; -33.395,2.65 -32.645,2.65 ; -30.855,-2.65 -30.105,-2.65 ; -30.855,2.65 -30.105,2.65 ; -28.315,-2.65 -27.565,-2.65 ; -28.315,2.65 -27.565,2.65 ; -25.775,-2.65 -25.025,-2.65 ; -25.775,2.65 -25.025,2.65 ; -23.235,-2.65 -22.485,-2.65 ; -23.235,2.65 -22.485,2.65 ; -20.695,-2.65 -19.945,-2.65 ; -20.695,2.65 -19.945,2.65 ; -18.155,-2.65 -17.405,-2.65 ; -18.155,2.65 -17.405,2.65 ; -15.615,-2.65 -14.865,-2.65 ; -15.615,2.65 -14.865,2.65 ; -13.075,-2.65 -12.325,-2.65 ; -13.075,2.65 -12.325,2.65 ; -10.535,-2.65 -9.785,-2.65 ; -10.535,2.65 -9.785,2.65 ; -7.995,-2.65 -7.245,-2.65 ; -7.995,2.65 -7.245,2.65 ; -5.455,-2.65 -4.705,-2.65 ; -5.455,2.65 -4.705,2.65 ; -2.915,-2.65 -2.165,-2.65 ; -2.915,2.65 -2.165,2.65 ; -0.375,-2.65 0.375,-2.65 ; -0.375,2.65 0.375,2.65 ; 2.165,-2.65 2.915,-2.65 ; 2.165,2.65 2.915,2.65 ; 4.705,-2.65 5.455,-2.65 ; 4.705,2.65 5.455,2.65 ; 7.245,-2.65 7.995,-2.65 ; 7.245,2.65 7.995,2.65 ; 9.785,-2.65 10.535,-2.65 ; 9.785,2.65 10.535,2.65 ; 12.325,-2.65 13.075,-2.65 ; 12.325,2.65 13.075,2.65 ; 14.865,-2.65 15.615,-2.65 ; 14.865,2.65 15.615,2.65 ; 17.405,-2.65 18.155,-2.65 ; 17.405,2.65 18.155,2.65 ; 19.945,-2.65 20.695,-2.65 ; 19.945,2.65 20.695,2.65 ; 22.485,-2.65 23.235,-2.65 ; 22.485,2.65 23.235,2.65 ; 25.025,-2.65 25.775,-2.65 ; 25.025,2.65 25.775,2.65 ; 27.565,-2.65 28.315,-2.65 ; 27.565,2.65 28.315,2.65 ; 30.105,-2.65 30.855,-2.65 ; 30.105,2.65 30.855,2.65 ; 32.645,-2.65 33.395,-2.65 ; 32.645,2.65 33.395,2.65 ; 35.185,-2.65 35.935,-2.65 ; 35.185,2.65 35.935,2.65 ; 37.725,-2.65 38.475,-2.65 ; 37.725,2.65 38.475,2.65 ; 40.265,-2.65 41.015,-2.65 ; 40.265,2.65 41.015,2.65 ; 42.805,-2.65 43.29,-2.65 43.29,2.65 42.805,2.65
Top Assembly:
  lines w0.254: -42.41,2.54 -41.91,1.833 -41.41,2.54 ; -43.18,-2.54 43.18,-2.54 43.18,2.54 -43.18,2.54 -43.18,-2.54
  text "'.Designator'" at -4.047,-2.68 h1
Top Courtyard:
  lines w0.254: -43.68,-4.17 43.68,-4.17 43.68,4.17 -43.68,4.17 -43.68,-4.17
Top Designator:
  text ".Designator" at -7.618,-0.508 h1.52

## Samtec_HLE-134-02-xxx-DV-BE-A_2x34_P2.54mm_Horizontal [mm]
pads (138):
  rect 1.27x1.68 smd: 1(-41.91,2.72) 2(-41.91,-2.72) 3(-39.37,2.72) 4(-39.37,-2.72) 5(-36.83,2.72) 6(-36.83,-2.72) 7(-34.29,2.72) 8(-34.29,-2.72) 9(-31.75,2.72) 10(-31.75,-2.72) 11(-29.21,2.72) 12(-29.21,-2.72) 13(-26.67,2.72) 14(-26.67,-2.72) 15(-24.13,2.72) 16(-24.13,-2.72) 17(-21.59,2.72) 18(-21.59,-2.72) 19(-19.05,2.72) 20(-19.05,-2.72) 21(-16.51,2.72) 22(-16.51,-2.72) 23(-13.97,2.72) 24(-13.97,-2.72) 25(-11.43,2.72) 26(-11.43,-2.72) 27(-8.89,2.72) 28(-8.89,-2.72) 29(-6.35,2.72) 30(-6.35,-2.72) 31(-3.81,2.72) 32(-3.81,-2.72) 33(-1.27,2.72) 34(-1.27,-2.72) 35(1.27,2.72) 36(1.27,-2.72) 37(3.81,2.72) 38(3.81,-2.72) 39(6.35,2.72) 40(6.35,-2.72) 41(8.89,2.72) 42(8.89,-2.72) 43(11.43,2.72) 44(11.43,-2.72) 45(13.97,2.72) 46(13.97,-2.72) 47(16.51,2.72) 48(16.51,-2.72) 49(19.05,2.72) 50(19.05,-2.72) 51(21.59,2.72) 52(21.59,-2.72) 53(24.13,2.72) 54(24.13,-2.72) 55(26.67,2.72) 56(26.67,-2.72) 57(29.21,2.72) 58(29.21,-2.72) 59(31.75,2.72) 60(31.75,-2.72) 61(34.29,2.72) 62(34.29,-2.72) 63(36.83,2.72) 64(36.83,-2.72) 65(39.37,2.72) 66(39.37,-2.72) 67(41.91,2.72) 68(41.91,-2.72)
  round 0.97 hole 0.97: Un1(-41.91,1.27) Un2(-41.91,-1.27) Un4(-39.37,1.27) Un5(-39.37,-1.27) Un6(-36.83,1.27) Un7(-36.83,-1.27) Un8(-34.29,1.27) Un9(-34.29,-1.27) Un10(-31.75,1.27) Un11(-31.75,-1.27) Un12(-29.21,1.27) Un13(-29.21,-1.27) Un14(-26.67,1.27) Un15(-26.67,-1.27) Un16(-24.13,1.27) Un17(-24.13,-1.27) Un18(-21.59,1.27) Un19(-21.59,-1.27) Un20(-19.05,1.27) Un21(-19.05,-1.27) Un22(-16.51,1.27) Un23(-16.51,-1.27) Un24(-13.97,1.27) Un25(-13.97,-1.27) Un26(-11.43,1.27) Un27(-11.43,-1.27) Un28(-8.89,1.27) Un29(-8.89,-1.27) Un30(-6.35,1.27) Un31(-6.35,-1.27) Un32(-3.81,1.27) Un33(-3.81,-1.27) Un34(-1.27,1.27) Un35(-1.27,-1.27) Un36(1.27,1.27) Un37(1.27,-1.27) Un38(3.81,1.27) Un39(3.81,-1.27) Un40(6.35,1.27) Un41(6.35,-1.27) Un42(8.89,1.27) Un43(8.89,-1.27) Un44(11.43,1.27) Un45(11.43,-1.27) Un46(13.97,1.27) Un47(13.97,-1.27) Un48(16.51,1.27) Un49(16.51,-1.27) Un50(19.05,1.27) Un51(19.05,-1.27) Un52(21.59,1.27) Un53(21.59,-1.27) Un54(24.13,1.27) Un55(24.13,-1.27) Un56(26.67,1.27) Un57(26.67,-1.27) Un58(29.21,1.27) Un59(29.21,-1.27) Un60(31.75,1.27) Un61(31.75,-1.27) Un62(34.29,1.27) Un63(34.29,-1.27) Un64(36.83,1.27) Un65(36.83,-1.27) Un66(39.37,1.27) Un67(39.37,-1.27) Un69(41.91,1.27) Un70(41.91,-1.27)
  round 1.78 hole 1.78: Un3(-40.64,0) Un68(40.64,0)
F.SilkS:
  lines w0.254: -42.805,-2.65 -43.29,-2.65 -43.29,2.65 -42.805,2.65 -42.805,3.56 ; -41.015,-2.65 -40.265,-2.65 ; -41.015,2.65 -40.265,2.65 ; -38.475,-2.65 -37.725,-2.65 ; -38.475,2.65 -37.725,2.65 ; -35.935,-2.65 -35.185,-2.65 ; -35.935,2.65 -35.185,2.65 ; -33.395,-2.65 -32.645,-2.65 ; -33.395,2.65 -32.645,2.65 ; -30.855,-2.65 -30.105,-2.65 ; -30.855,2.65 -30.105,2.65 ; -28.315,-2.65 -27.565,-2.65 ; -28.315,2.65 -27.565,2.65 ; -25.775,-2.65 -25.025,-2.65 ; -25.775,2.65 -25.025,2.65 ; -23.235,-2.65 -22.485,-2.65 ; -23.235,2.65 -22.485,2.65 ; -20.695,-2.65 -19.945,-2.65 ; -20.695,2.65 -19.945,2.65 ; -18.155,-2.65 -17.405,-2.65 ; -18.155,2.65 -17.405,2.65 ; -15.615,-2.65 -14.865,-2.65 ; -15.615,2.65 -14.865,2.65 ; -13.075,-2.65 -12.325,-2.65 ; -13.075,2.65 -12.325,2.65 ; -10.535,-2.65 -9.785,-2.65 ; -10.535,2.65 -9.785,2.65 ; -7.995,-2.65 -7.245,-2.65 ; -7.995,2.65 -7.245,2.65 ; -5.455,-2.65 -4.705,-2.65 ; -5.455,2.65 -4.705,2.65 ; -2.915,-2.65 -2.165,-2.65 ; -2.915,2.65 -2.165,2.65 ; -0.375,-2.65 0.375,-2.65 ; -0.375,2.65 0.375,2.65 ; 2.165,-2.65 2.915,-2.65 ; 2.165,2.65 2.915,2.65 ; 4.705,-2.65 5.455,-2.65 ; 4.705,2.65 5.455,2.65 ; 7.245,-2.65 7.995,-2.65 ; 7.245,2.65 7.995,2.65 ; 9.785,-2.65 10.535,-2.65 ; 9.785,2.65 10.535,2.65 ; 12.325,-2.65 13.075,-2.65 ; 12.325,2.65 13.075,2.65 ; 14.865,-2.65 15.615,-2.65 ; 14.865,2.65 15.615,2.65 ; 17.405,-2.65 18.155,-2.65 ; 17.405,2.65 18.155,2.65 ; 19.945,-2.65 20.695,-2.65 ; 19.945,2.65 20.695,2.65 ; 22.485,-2.65 23.235,-2.65 ; 22.485,2.65 23.235,2.65 ; 25.025,-2.65 25.775,-2.65 ; 25.025,2.65 25.775,2.65 ; 27.565,-2.65 28.315,-2.65 ; 27.565,2.65 28.315,2.65 ; 30.105,-2.65 30.855,-2.65 ; 30.105,2.65 30.855,2.65 ; 32.645,-2.65 33.395,-2.65 ; 32.645,2.65 33.395,2.65 ; 35.185,-2.65 35.935,-2.65 ; 35.185,2.65 35.935,2.65 ; 37.725,-2.65 38.475,-2.65 ; 37.725,2.65 38.475,2.65 ; 40.265,-2.65 41.015,-2.65 ; 40.265,2.65 41.015,2.65 ; 42.805,-2.65 43.29,-2.65 43.29,2.65 42.805,2.65
Top Assembly:
  lines w0.254: -42.41,2.54 -41.91,1.833 -41.41,2.54 ; -43.18,-2.54 43.18,-2.54 43.18,2.54 -43.18,2.54 -43.18,-2.54
  text "'.Designator'" at -4.047,-2.68 h1
Top Courtyard:
  lines w0.254: -43.68,-4.07 43.68,-4.07 43.68,4.07 -43.68,4.07 -43.68,-4.07
Top Designator:
  text ".Designator" at -7.618,-0.508 h1.52

## Samtec_HLE-134-02-xxx-DV-BE-LC_2x34_P2.54mm_Horizontal [mm]
pads (138):
  rect 1.27x1.68 smd: 1(-41.91,2.72) 2(-41.91,-2.72) 3(-39.37,2.72) 4(-39.37,-2.72) 5(-36.83,2.72) 6(-36.83,-2.72) 7(-34.29,2.72) 8(-34.29,-2.72) 9(-31.75,2.72) 10(-31.75,-2.72) 11(-29.21,2.72) 12(-29.21,-2.72) 13(-26.67,2.72) 14(-26.67,-2.72) 15(-24.13,2.72) 16(-24.13,-2.72) 17(-21.59,2.72) 18(-21.59,-2.72) 19(-19.05,2.72) 20(-19.05,-2.72) 21(-16.51,2.72) 22(-16.51,-2.72) 23(-13.97,2.72) 24(-13.97,-2.72) 25(-11.43,2.72) 26(-11.43,-2.72) 27(-8.89,2.72) 28(-8.89,-2.72) 29(-6.35,2.72) 30(-6.35,-2.72) 31(-3.81,2.72) 32(-3.81,-2.72) 33(-1.27,2.72) 34(-1.27,-2.72) 35(1.27,2.72) 36(1.27,-2.72) 37(3.81,2.72) 38(3.81,-2.72) 39(6.35,2.72) 40(6.35,-2.72) 41(8.89,2.72) 42(8.89,-2.72) 43(11.43,2.72) 44(11.43,-2.72) 45(13.97,2.72) 46(13.97,-2.72) 47(16.51,2.72) 48(16.51,-2.72) 49(19.05,2.72) 50(19.05,-2.72) 51(21.59,2.72) 52(21.59,-2.72) 53(24.13,2.72) 54(24.13,-2.72) 55(26.67,2.72) 56(26.67,-2.72) 57(29.21,2.72) 58(29.21,-2.72) 59(31.75,2.72) 60(31.75,-2.72) 61(34.29,2.72) 62(34.29,-2.72) 63(36.83,2.72) 64(36.83,-2.72) 65(39.37,2.72) 66(39.37,-2.72) 67(41.91,2.72) 68(41.91,-2.72)
  round 0.97 hole 0.97: Un1(-41.91,1.27) Un2(-41.91,-1.27) Un4(-39.37,1.27) Un5(-39.37,-1.27) Un6(-36.83,1.27) Un7(-36.83,-1.27) Un8(-34.29,1.27) Un9(-34.29,-1.27) Un10(-31.75,1.27) Un11(-31.75,-1.27) Un12(-29.21,1.27) Un13(-29.21,-1.27) Un14(-26.67,1.27) Un15(-26.67,-1.27) Un16(-24.13,1.27) Un17(-24.13,-1.27) Un18(-21.59,1.27) Un19(-21.59,-1.27) Un20(-19.05,1.27) Un21(-19.05,-1.27) Un22(-16.51,1.27) Un23(-16.51,-1.27) Un24(-13.97,1.27) Un25(-13.97,-1.27) Un26(-11.43,1.27) Un27(-11.43,-1.27) Un28(-8.89,1.27) Un29(-8.89,-1.27) Un30(-6.35,1.27) Un31(-6.35,-1.27) Un32(-3.81,1.27) Un33(-3.81,-1.27) Un34(-1.27,1.27) Un35(-1.27,-1.27) Un36(1.27,1.27) Un37(1.27,-1.27) Un38(3.81,1.27) Un39(3.81,-1.27) Un40(6.35,1.27) Un41(6.35,-1.27) Un42(8.89,1.27) Un43(8.89,-1.27) Un44(11.43,1.27) Un45(11.43,-1.27) Un46(13.97,1.27) Un47(13.97,-1.27) Un48(16.51,1.27) Un49(16.51,-1.27) Un50(19.05,1.27) Un51(19.05,-1.27) Un52(21.59,1.27) Un53(21.59,-1.27) Un54(24.13,1.27) Un55(24.13,-1.27) Un56(26.67,1.27) Un57(26.67,-1.27) Un58(29.21,1.27) Un59(29.21,-1.27) Un60(31.75,1.27) Un61(31.75,-1.27) Un62(34.29,1.27) Un63(34.29,-1.27) Un64(36.83,1.27) Un65(36.83,-1.27) Un66(39.37,1.27) Un67(39.37,-1.27) Un69(41.91,1.27) Un70(41.91,-1.27)
  round 1.19 hole 1.19: Un3(-40.64,0) Un68(40.64,0)
F.SilkS:
  lines w0.254: -42.805,-2.65 -43.29,-2.65 -43.29,2.65 -42.805,2.65 -42.805,3.56 ; -41.015,-2.65 -40.265,-2.65 ; -41.015,2.65 -40.265,2.65 ; -38.475,-2.65 -37.725,-2.65 ; -38.475,2.65 -37.725,2.65 ; -35.935,-2.65 -35.185,-2.65 ; -35.935,2.65 -35.185,2.65 ; -33.395,-2.65 -32.645,-2.65 ; -33.395,2.65 -32.645,2.65 ; -30.855,-2.65 -30.105,-2.65 ; -30.855,2.65 -30.105,2.65 ; -28.315,-2.65 -27.565,-2.65 ; -28.315,2.65 -27.565,2.65 ; -25.775,-2.65 -25.025,-2.65 ; -25.775,2.65 -25.025,2.65 ; -23.235,-2.65 -22.485,-2.65 ; -23.235,2.65 -22.485,2.65 ; -20.695,-2.65 -19.945,-2.65 ; -20.695,2.65 -19.945,2.65 ; -18.155,-2.65 -17.405,-2.65 ; -18.155,2.65 -17.405,2.65 ; -15.615,-2.65 -14.865,-2.65 ; -15.615,2.65 -14.865,2.65 ; -13.075,-2.65 -12.325,-2.65 ; -13.075,2.65 -12.325,2.65 ; -10.535,-2.65 -9.785,-2.65 ; -10.535,2.65 -9.785,2.65 ; -7.995,-2.65 -7.245,-2.65 ; -7.995,2.65 -7.245,2.65 ; -5.455,-2.65 -4.705,-2.65 ; -5.455,2.65 -4.705,2.65 ; -2.915,-2.65 -2.165,-2.65 ; -2.915,2.65 -2.165,2.65 ; -0.375,-2.65 0.375,-2.65 ; -0.375,2.65 0.375,2.65 ; 2.165,-2.65 2.915,-2.65 ; 2.165,2.65 2.915,2.65 ; 4.705,-2.65 5.455,-2.65 ; 4.705,2.65 5.455,2.65 ; 7.245,-2.65 7.995,-2.65 ; 7.245,2.65 7.995,2.65 ; 9.785,-2.65 10.535,-2.65 ; 9.785,2.65 10.535,2.65 ; 12.325,-2.65 13.075,-2.65 ; 12.325,2.65 13.075,2.65 ; 14.865,-2.65 15.615,-2.65 ; 14.865,2.65 15.615,2.65 ; 17.405,-2.65 18.155,-2.65 ; 17.405,2.65 18.155,2.65 ; 19.945,-2.65 20.695,-2.65 ; 19.945,2.65 20.695,2.65 ; 22.485,-2.65 23.235,-2.65 ; 22.485,2.65 23.235,2.65 ; 25.025,-2.65 25.775,-2.65 ; 25.025,2.65 25.775,2.65 ; 27.565,-2.65 28.315,-2.65 ; 27.565,2.65 28.315,2.65 ; 30.105,-2.65 30.855,-2.65 ; 30.105,2.65 30.855,2.65 ; 32.645,-2.65 33.395,-2.65 ; 32.645,2.65 33.395,2.65 ; 35.185,-2.65 35.935,-2.65 ; 35.185,2.65 35.935,2.65 ; 37.725,-2.65 38.475,-2.65 ; 37.725,2.65 38.475,2.65 ; 40.265,-2.65 41.015,-2.65 ; 40.265,2.65 41.015,2.65 ; 42.805,-2.65 43.29,-2.65 43.29,2.65 42.805,2.65
Top Assembly:
  lines w0.254: -42.41,2.54 -41.91,1.833 -41.41,2.54 ; -43.18,-2.54 43.18,-2.54 43.18,2.54 -43.18,2.54 -43.18,-2.54
  text "'.Designator'" at -4.047,-2.68 h1
Top Courtyard:
  lines w0.254: -43.68,-4.07 43.68,-4.07 43.68,4.07 -43.68,4.07 -43.68,-4.07
Top Designator:
  text ".Designator" at -7.618,-0.508 h1.52

## Samtec_HLE-134-02-xxx-DV-BE_2x34_P2.54mm_Horizontal [mm]
pads (136):
  rect 1.27x1.68 smd: 1(-41.91,2.72) 2(-41.91,-2.72) 3(-39.37,2.72) 4(-39.37,-2.72) 5(-36.83,2.72) 6(-36.83,-2.72) 7(-34.29,2.72) 8(-34.29,-2.72) 9(-31.75,2.72) 10(-31.75,-2.72) 11(-29.21,2.72) 12(-29.21,-2.72) 13(-26.67,2.72) 14(-26.67,-2.72) 15(-24.13,2.72) 16(-24.13,-2.72) 17(-21.59,2.72) 18(-21.59,-2.72) 19(-19.05,2.72) 20(-19.05,-2.72) 21(-16.51,2.72) 22(-16.51,-2.72) 23(-13.97,2.72) 24(-13.97,-2.72) 25(-11.43,2.72) 26(-11.43,-2.72) 27(-8.89,2.72) 28(-8.89,-2.72) 29(-6.35,2.72) 30(-6.35,-2.72) 31(-3.81,2.72) 32(-3.81,-2.72) 33(-1.27,2.72) 34(-1.27,-2.72) 35(1.27,2.72) 36(1.27,-2.72) 37(3.81,2.72) 38(3.81,-2.72) 39(6.35,2.72) 40(6.35,-2.72) 41(8.89,2.72) 42(8.89,-2.72) 43(11.43,2.72) 44(11.43,-2.72) 45(13.97,2.72) 46(13.97,-2.72) 47(16.51,2.72) 48(16.51,-2.72) 49(19.05,2.72) 50(19.05,-2.72) 51(21.59,2.72) 52(21.59,-2.72) 53(24.13,2.72) 54(24.13,-2.72) 55(26.67,2.72) 56(26.67,-2.72) 57(29.21,2.72) 58(29.21,-2.72) 59(31.75,2.72) 60(31.75,-2.72) 61(34.29,2.72) 62(34.29,-2.72) 63(36.83,2.72) 64(36.83,-2.72) 65(39.37,2.72) 66(39.37,-2.72) 67(41.91,2.72) 68(41.91,-2.72)
  round 0.97 hole 0.97: Un1(-41.91,1.27) Un2(-41.91,-1.27) Un3(-39.37,1.27) Un4(-39.37,-1.27) Un5(-36.83,1.27) Un6(-36.83,-1.27) Un7(-34.29,1.27) Un8(-34.29,-1.27) Un9(-31.75,1.27) Un10(-31.75,-1.27) Un11(-29.21,1.27) Un12(-29.21,-1.27) Un13(-26.67,1.27) Un14(-26.67,-1.27) Un15(-24.13,1.27) Un16(-24.13,-1.27) Un17(-21.59,1.27) Un18(-21.59,-1.27) Un19(-19.05,1.27) Un20(-19.05,-1.27) Un21(-16.51,1.27) Un22(-16.51,-1.27) Un23(-13.97,1.27) Un24(-13.97,-1.27) Un25(-11.43,1.27) Un26(-11.43,-1.27) Un27(-8.89,1.27) Un28(-8.89,-1.27) Un29(-6.35,1.27) Un30(-6.35,-1.27) Un31(-3.81,1.27) Un32(-3.81,-1.27) Un33(-1.27,1.27) Un34(-1.27,-1.27) Un35(1.27,1.27) Un36(1.27,-1.27) Un37(3.81,1.27) Un38(3.81,-1.27) Un39(6.35,1.27) Un40(6.35,-1.27) Un41(8.89,1.27) Un42(8.89,-1.27) Un43(11.43,1.27) Un44(11.43,-1.27) Un45(13.97,1.27) Un46(13.97,-1.27) Un47(16.51,1.27) Un48(16.51,-1.27) Un49(19.05,1.27) Un50(19.05,-1.27) Un51(21.59,1.27) Un52(21.59,-1.27) Un53(24.13,1.27) Un54(24.13,-1.27) Un55(26.67,1.27) Un56(26.67,-1.27) Un57(29.21,1.27) Un58(29.21,-1.27) Un59(31.75,1.27) Un60(31.75,-1.27) Un61(34.29,1.27) Un62(34.29,-1.27) Un63(36.83,1.27) Un64(36.83,-1.27) Un65(39.37,1.27) Un66(39.37,-1.27) Un67(41.91,1.27) Un68(41.91,-1.27)
F.SilkS:
  lines w0.254: -42.805,-2.65 -43.29,-2.65 -43.29,2.65 -42.805,2.65 -42.805,3.56 ; -41.015,-2.65 -40.265,-2.65 ; -41.015,2.65 -40.265,2.65 ; -38.475,-2.65 -37.725,-2.65 ; -38.475,2.65 -37.725,2.65 ; -35.935,-2.65 -35.185,-2.65 ; -35.935,2.65 -35.185,2.65 ; -33.395,-2.65 -32.645,-2.65 ; -33.395,2.65 -32.645,2.65 ; -30.855,-2.65 -30.105,-2.65 ; -30.855,2.65 -30.105,2.65 ; -28.315,-2.65 -27.565,-2.65 ; -28.315,2.65 -27.565,2.65 ; -25.775,-2.65 -25.025,-2.65 ; -25.775,2.65 -25.025,2.65 ; -23.235,-2.65 -22.485,-2.65 ; -23.235,2.65 -22.485,2.65 ; -20.695,-2.65 -19.945,-2.65 ; -20.695,2.65 -19.945,2.65 ; -18.155,-2.65 -17.405,-2.65 ; -18.155,2.65 -17.405,2.65 ; -15.615,-2.65 -14.865,-2.65 ; -15.615,2.65 -14.865,2.65 ; -13.075,-2.65 -12.325,-2.65 ; -13.075,2.65 -12.325,2.65 ; -10.535,-2.65 -9.785,-2.65 ; -10.535,2.65 -9.785,2.65 ; -7.995,-2.65 -7.245,-2.65 ; -7.995,2.65 -7.245,2.65 ; -5.455,-2.65 -4.705,-2.65 ; -5.455,2.65 -4.705,2.65 ; -2.915,-2.65 -2.165,-2.65 ; -2.915,2.65 -2.165,2.65 ; -0.375,-2.65 0.375,-2.65 ; -0.375,2.65 0.375,2.65 ; 2.165,-2.65 2.915,-2.65 ; 2.165,2.65 2.915,2.65 ; 4.705,-2.65 5.455,-2.65 ; 4.705,2.65 5.455,2.65 ; 7.245,-2.65 7.995,-2.65 ; 7.245,2.65 7.995,2.65 ; 9.785,-2.65 10.535,-2.65 ; 9.785,2.65 10.535,2.65 ; 12.325,-2.65 13.075,-2.65 ; 12.325,2.65 13.075,2.65 ; 14.865,-2.65 15.615,-2.65 ; 14.865,2.65 15.615,2.65 ; 17.405,-2.65 18.155,-2.65 ; 17.405,2.65 18.155,2.65 ; 19.945,-2.65 20.695,-2.65 ; 19.945,2.65 20.695,2.65 ; 22.485,-2.65 23.235,-2.65 ; 22.485,2.65 23.235,2.65 ; 25.025,-2.65 25.775,-2.65 ; 25.025,2.65 25.775,2.65 ; 27.565,-2.65 28.315,-2.65 ; 27.565,2.65 28.315,2.65 ; 30.105,-2.65 30.855,-2.65 ; 30.105,2.65 30.855,2.65 ; 32.645,-2.65 33.395,-2.65 ; 32.645,2.65 33.395,2.65 ; 35.185,-2.65 35.935,-2.65 ; 35.185,2.65 35.935,2.65 ; 37.725,-2.65 38.475,-2.65 ; 37.725,2.65 38.475,2.65 ; 40.265,-2.65 41.015,-2.65 ; 40.265,2.65 41.015,2.65 ; 42.805,-2.65 43.29,-2.65 43.29,2.65 42.805,2.65
Top Assembly:
  lines w0.254: -42.41,2.54 -41.91,1.833 -41.41,2.54 ; -43.18,-2.54 43.18,-2.54 43.18,2.54 -43.18,2.54 -43.18,-2.54
  text "'.Designator'" at -4.047,-2.68 h1
Top Courtyard:
  lines w0.254: -43.68,-4.07 43.68,-4.07 43.68,4.07 -43.68,4.07 -43.68,-4.07
Top Designator:
  text ".Designator" at -7.618,-0.508 h1.52

## Samtec_HLE-134-02-xxx-DV-LC_2x34_P2.54mm_Horizontal [mm]
pads (70):
  rect 1.27x2.29 smd: 1(-41.91,2.525) 2(-41.91,-2.525) 3(-39.37,2.525) 4(-39.37,-2.525) 5(-36.83,2.525) 6(-36.83,-2.525) 7(-34.29,2.525) 8(-34.29,-2.525) 9(-31.75,2.525) 10(-31.75,-2.525) 11(-29.21,2.525) 12(-29.21,-2.525) 13(-26.67,2.525) 14(-26.67,-2.525) 15(-24.13,2.525) 16(-24.13,-2.525) 17(-21.59,2.525) 18(-21.59,-2.525) 19(-19.05,2.525) 20(-19.05,-2.525) 21(-16.51,2.525) 22(-16.51,-2.525) 23(-13.97,2.525) 24(-13.97,-2.525) 25(-11.43,2.525) 26(-11.43,-2.525) 27(-8.89,2.525) 28(-8.89,-2.525) 29(-6.35,2.525) 30(-6.35,-2.525) 31(-3.81,2.525) 32(-3.81,-2.525) 33(-1.27,2.525) 34(-1.27,-2.525) 35(1.27,2.525) 36(1.27,-2.525) 37(3.81,2.525) 38(3.81,-2.525) 39(6.35,2.525) 40(6.35,-2.525) 41(8.89,2.525) 42(8.89,-2.525) 43(11.43,2.525) 44(11.43,-2.525) 45(13.97,2.525) 46(13.97,-2.525) 47(16.51,2.525) 48(16.51,-2.525) 49(19.05,2.525) 50(19.05,-2.525) 51(21.59,2.525) 52(21.59,-2.525) 53(24.13,2.525) 54(24.13,-2.525) 55(26.67,2.525) 56(26.67,-2.525) 57(29.21,2.525) 58(29.21,-2.525) 59(31.75,2.525) 60(31.75,-2.525) 61(34.29,2.525) 62(34.29,-2.525) 63(36.83,2.525) 64(36.83,-2.525) 65(39.37,2.525) 66(39.37,-2.525) 67(41.91,2.525) 68(41.91,-2.525)
  round 1.19 hole 1.19: Un1(-40.64,0) Un2(40.64,0)
F.SilkS:
  lines w0.254: -42.805,-2.65 -43.29,-2.65 -43.29,2.65 -42.805,2.65 -42.805,3.67 ; -41.015,-2.65 -40.265,-2.65 ; -41.015,2.65 -40.265,2.65 ; -38.475,-2.65 -37.725,-2.65 ; -38.475,2.65 -37.725,2.65 ; -35.935,-2.65 -35.185,-2.65 ; -35.935,2.65 -35.185,2.65 ; -33.395,-2.65 -32.645,-2.65 ; -33.395,2.65 -32.645,2.65 ; -30.855,-2.65 -30.105,-2.65 ; -30.855,2.65 -30.105,2.65 ; -28.315,-2.65 -27.565,-2.65 ; -28.315,2.65 -27.565,2.65 ; -25.775,-2.65 -25.025,-2.65 ; -25.775,2.65 -25.025,2.65 ; -23.235,-2.65 -22.485,-2.65 ; -23.235,2.65 -22.485,2.65 ; -20.695,-2.65 -19.945,-2.65 ; -20.695,2.65 -19.945,2.65 ; -18.155,-2.65 -17.405,-2.65 ; -18.155,2.65 -17.405,2.65 ; -15.615,-2.65 -14.865,-2.65 ; -15.615,2.65 -14.865,2.65 ; -13.075,-2.65 -12.325,-2.65 ; -13.075,2.65 -12.325,2.65 ; -10.535,-2.65 -9.785,-2.65 ; -10.535,2.65 -9.785,2.65 ; -7.995,-2.65 -7.245,-2.65 ; -7.995,2.65 -7.245,2.65 ; -5.455,-2.65 -4.705,-2.65 ; -5.455,2.65 -4.705,2.65 ; -2.915,-2.65 -2.165,-2.65 ; -2.915,2.65 -2.165,2.65 ; -0.375,-2.65 0.375,-2.65 ; -0.375,2.65 0.375,2.65 ; 2.165,-2.65 2.915,-2.65 ; 2.165,2.65 2.915,2.65 ; 4.705,-2.65 5.455,-2.65 ; 4.705,2.65 5.455,2.65 ; 7.245,-2.65 7.995,-2.65 ; 7.245,2.65 7.995,2.65 ; 9.785,-2.65 10.535,-2.65 ; 9.785,2.65 10.535,2.65 ; 12.325,-2.65 13.075,-2.65 ; 12.325,2.65 13.075,2.65 ; 14.865,-2.65 15.615,-2.65 ; 14.865,2.65 15.615,2.65 ; 17.405,-2.65 18.155,-2.65 ; 17.405,2.65 18.155,2.65 ; 19.945,-2.65 20.695,-2.65 ; 19.945,2.65 20.695,2.65 ; 22.485,-2.65 23.235,-2.65 ; 22.485,2.65 23.235,2.65 ; 25.025,-2.65 25.775,-2.65 ; 25.025,2.65 25.775,2.65 ; 27.565,-2.65 28.315,-2.65 ; 27.565,2.65 28.315,2.65 ; 30.105,-2.65 30.855,-2.65 ; 30.105,2.65 30.855,2.65 ; 32.645,-2.65 33.395,-2.65 ; 32.645,2.65 33.395,2.65 ; 35.185,-2.65 35.935,-2.65 ; 35.185,2.65 35.935,2.65 ; 37.725,-2.65 38.475,-2.65 ; 37.725,2.65 38.475,2.65 ; 40.265,-2.65 41.015,-2.65 ; 40.265,2.65 41.015,2.65 ; 42.805,-2.65 43.29,-2.65 43.29,2.65 42.805,2.65
Top Assembly:
  lines w0.254: -42.41,2.54 -41.91,1.833 -41.41,2.54 ; -43.18,-2.54 43.18,-2.54 43.18,2.54 -43.18,2.54 -43.18,-2.54
  text "'.Designator'" at -4.047,-2.68 h1
Top Courtyard:
  lines w0.254: -43.68,-4.17 43.68,-4.17 43.68,4.17 -43.68,4.17 -43.68,-4.17
Top Designator:
  text ".Designator" at -7.618,-0.508 h1.52

## Samtec_HLE-134-02-xxx-DV_2x34_P2.54mm_Horizontal [mm]
pads (68):
  rect 1.27x2.29 smd: 1(-41.91,2.525) 2(-41.91,-2.525) 3(-39.37,2.525) 4(-39.37,-2.525) 5(-36.83,2.525) 6(-36.83,-2.525) 7(-34.29,2.525) 8(-34.29,-2.525) 9(-31.75,2.525) 10(-31.75,-2.525) 11(-29.21,2.525) 12(-29.21,-2.525) 13(-26.67,2.525) 14(-26.67,-2.525) 15(-24.13,2.525) 16(-24.13,-2.525) 17(-21.59,2.525) 18(-21.59,-2.525) 19(-19.05,2.525) 20(-19.05,-2.525) 21(-16.51,2.525) 22(-16.51,-2.525) 23(-13.97,2.525) 24(-13.97,-2.525) 25(-11.43,2.525) 26(-11.43,-2.525) 27(-8.89,2.525) 28(-8.89,-2.525) 29(-6.35,2.525) 30(-6.35,-2.525) 31(-3.81,2.525) 32(-3.81,-2.525) 33(-1.27,2.525) 34(-1.27,-2.525) 35(1.27,2.525) 36(1.27,-2.525) 37(3.81,2.525) 38(3.81,-2.525) 39(6.35,2.525) 40(6.35,-2.525) 41(8.89,2.525) 42(8.89,-2.525) 43(11.43,2.525) 44(11.43,-2.525) 45(13.97,2.525) 46(13.97,-2.525) 47(16.51,2.525) 48(16.51,-2.525) 49(19.05,2.525) 50(19.05,-2.525) 51(21.59,2.525) 52(21.59,-2.525) 53(24.13,2.525) 54(24.13,-2.525) 55(26.67,2.525) 56(26.67,-2.525) 57(29.21,2.525) 58(29.21,-2.525) 59(31.75,2.525) 60(31.75,-2.525) 61(34.29,2.525) 62(34.29,-2.525) 63(36.83,2.525) 64(36.83,-2.525) 65(39.37,2.525) 66(39.37,-2.525) 67(41.91,2.525) 68(41.91,-2.525)
F.SilkS:
  lines w0.254: -42.805,-2.65 -43.29,-2.65 -43.29,2.65 -42.805,2.65 -42.805,3.67 ; -41.015,-2.65 -40.265,-2.65 ; -41.015,2.65 -40.265,2.65 ; -38.475,-2.65 -37.725,-2.65 ; -38.475,2.65 -37.725,2.65 ; -35.935,-2.65 -35.185,-2.65 ; -35.935,2.65 -35.185,2.65 ; -33.395,-2.65 -32.645,-2.65 ; -33.395,2.65 -32.645,2.65 ; -30.855,-2.65 -30.105,-2.65 ; -30.855,2.65 -30.105,2.65 ; -28.315,-2.65 -27.565,-2.65 ; -28.315,2.65 -27.565,2.65 ; -25.775,-2.65 -25.025,-2.65 ; -25.775,2.65 -25.025,2.65 ; -23.235,-2.65 -22.485,-2.65 ; -23.235,2.65 -22.485,2.65 ; -20.695,-2.65 -19.945,-2.65 ; -20.695,2.65 -19.945,2.65 ; -18.155,-2.65 -17.405,-2.65 ; -18.155,2.65 -17.405,2.65 ; -15.615,-2.65 -14.865,-2.65 ; -15.615,2.65 -14.865,2.65 ; -13.075,-2.65 -12.325,-2.65 ; -13.075,2.65 -12.325,2.65 ; -10.535,-2.65 -9.785,-2.65 ; -10.535,2.65 -9.785,2.65 ; -7.995,-2.65 -7.245,-2.65 ; -7.995,2.65 -7.245,2.65 ; -5.455,-2.65 -4.705,-2.65 ; -5.455,2.65 -4.705,2.65 ; -2.915,-2.65 -2.165,-2.65 ; -2.915,2.65 -2.165,2.65 ; -0.375,-2.65 0.375,-2.65 ; -0.375,2.65 0.375,2.65 ; 2.165,-2.65 2.915,-2.65 ; 2.165,2.65 2.915,2.65 ; 4.705,-2.65 5.455,-2.65 ; 4.705,2.65 5.455,2.65 ; 7.245,-2.65 7.995,-2.65 ; 7.245,2.65 7.995,2.65 ; 9.785,-2.65 10.535,-2.65 ; 9.785,2.65 10.535,2.65 ; 12.325,-2.65 13.075,-2.65 ; 12.325,2.65 13.075,2.65 ; 14.865,-2.65 15.615,-2.65 ; 14.865,2.65 15.615,2.65 ; 17.405,-2.65 18.155,-2.65 ; 17.405,2.65 18.155,2.65 ; 19.945,-2.65 20.695,-2.65 ; 19.945,2.65 20.695,2.65 ; 22.485,-2.65 23.235,-2.65 ; 22.485,2.65 23.235,2.65 ; 25.025,-2.65 25.775,-2.65 ; 25.025,2.65 25.775,2.65 ; 27.565,-2.65 28.315,-2.65 ; 27.565,2.65 28.315,2.65 ; 30.105,-2.65 30.855,-2.65 ; 30.105,2.65 30.855,2.65 ; 32.645,-2.65 33.395,-2.65 ; 32.645,2.65 33.395,2.65 ; 35.185,-2.65 35.935,-2.65 ; 35.185,2.65 35.935,2.65 ; 37.725,-2.65 38.475,-2.65 ; 37.725,2.65 38.475,2.65 ; 40.265,-2.65 41.015,-2.65 ; 40.265,2.65 41.015,2.65 ; 42.805,-2.65 43.29,-2.65 43.29,2.65 42.805,2.65
Top Assembly:
  lines w0.254: -42.41,2.54 -41.91,1.833 -41.41,2.54 ; -43.18,-2.54 43.18,-2.54 43.18,2.54 -43.18,2.54 -43.18,-2.54
  text "'.Designator'" at -4.047,-2.68 h1
Top Courtyard:
  lines w0.254: -43.68,-4.17 43.68,-4.17 43.68,4.17 -43.68,4.17 -43.68,-4.17
Top Designator:
  text ".Designator" at -7.618,-0.508 h1.52